# Altium footprint library LED OSRAM.PcbLib: 2 footprints
Each footprint in its own frame and in the unit in brackets; x right, y up, seen from the top. Pads: shape width x height; smd on the part's side, far side on the other; paste and mask are expansions set on the pad; w line width, h text height; cw(c..) or ccw(c..) is an arc to the next point about the centre after c.
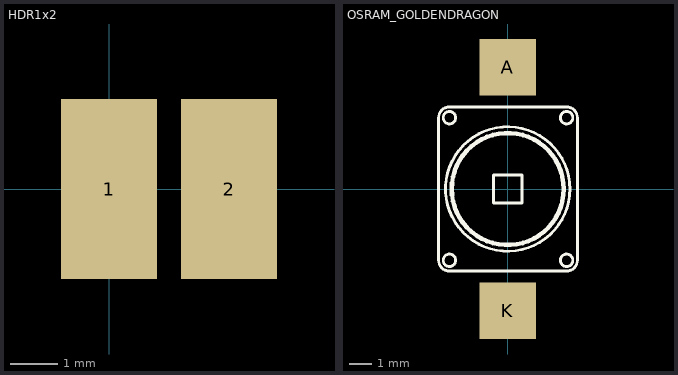
[diagram p0: the footprints below, top view; thin cyan lines are the x and y axes]

## HDR1x2 [mil] "Connector; Header; 2 Position"
height 275.59
pads (2):
  rect 80x150 smd: 1(0,0) 2(100,0)
3D body "CircuitWorks-HEADER 2_54 HORIZONTAL 2X.step": height 62.31, standoff -114.85, extent -51,-81.15 149,325.15

## OSRAM_GOLDENDRAGON [mil]
height 78.74
pads (2):
  rect 100x100 smd: A(0,215) K(0,-215)
Top Overlay:
  circle w8: c0,0 r99
  circle w5: c-103,-126 r11
  circle w5: c-103,126 r11
  circle w5: c104,-126 r11
  circle w5: c104,126 r11
  circle w5: c0,0 r110
  lines w5: -122.03,125.97 cw(c-103,125.97) -103,145 104,145 ; -122,126 -122,-126 ccw(c-102.97,-126) -102.97,-145.03 ; -103,-145 104,-145 ccw(c104,-125.97) 123.03,-125.97 ; 104,145.03 cw(c104,126) 123.03,126 ; 123,-126 123,126 ; -25,-25 25,-25 25,25 -25,25 -25,-25
3D body "User Library-Osram Golden Dragon.step": height 69.4, standoff 0.5, extent -118.11,-216.55 118.12,216.53